# Altium integrated library TI Converter CODEC Voice-Band.IntLib: 99 symbols (part 2 of 7)
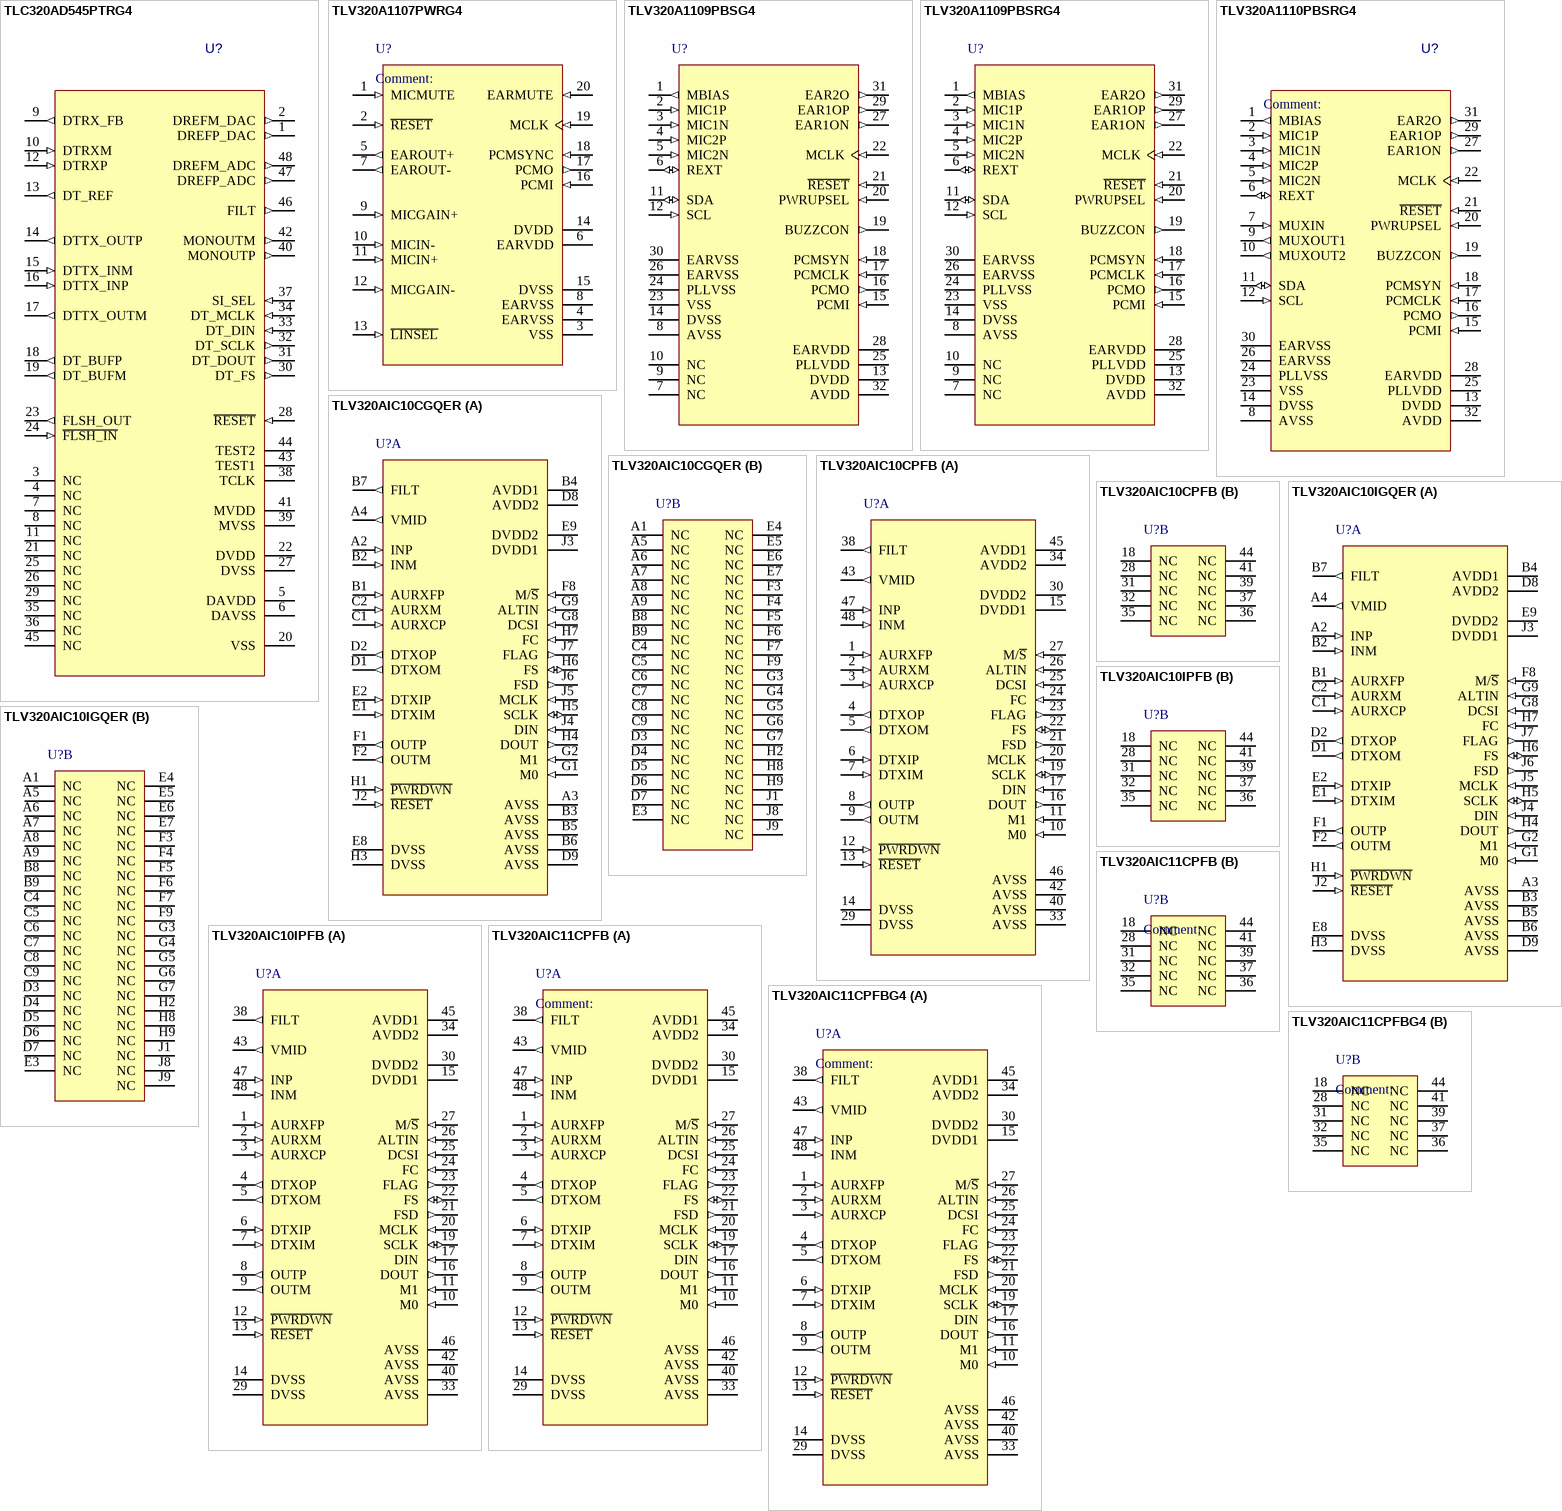
[diagram p10: symbols TLC320AD545PTRG4 to TLV320AIC11CPFBG4]

## TLV320AIC10CPFB
designator U?
General Purpose 3V to 5.5V 16-Bit 22-KSPS DSP CODEC, 48-pin TQFP, Commerical Grade; Published: 16-Dec-2005; LatestRevisionDate: 13-Apr-2006; LatestRevisionNote: IPC-7351 Footprint Added.; DatasheetVersion: 26-Jul-2005; PackageVersion: Jan-1998; PackageReference: PFB48; Publisher: Altium Limited; PackageDescription: 48-Pin Thin Plastic Quad Flat Pack 0.5 mm Pitch; Code_JEDEC: MS-026; ComponentLink1Description: Manufacturer Link; ComponentLink1URL: http://www.ti.com/; ComponentLink2Description: Datasheet; ComponentLink2URL: http://focus.ti.com/lit/ds/symlink/tlv320aic10.pdf
footprint PFB48_N (Thin QFP, 48-Leads, Body 7x7mm, Pitch 0.5mm, IPC Medium Density)
footprint PFB48_L (Thin QFP, 48-Leads, Body 7x7mm, Pitch 0.5mm, IPC High Density)
footprint PFB48_M (Thin QFP, 48-Leads, Body 7x7mm, Pitch 0.5mm, IPC Low Density)
part A pins: 1 AURXFP (in) "Receiver-path amplifier A1 feedback, or noninverting input to auxiliary analog input. Can also be used for general-purpose amplification.", 2 AURXM (in) "Receiver-path amplifier A1 inverting input, or inverting input to auxiliary analog input. Can also be used for general-purpose amplification.", 3 AURXCP (in) "Receiver-path/GP amplifier noninverting input. It needs to be connected to AVSS if not used.", 4 DTXOP (out) "Transmitter path amplifier A3 feedback for positive output. Can also be used for negative output.", 5 DTXOM (out) "Transmitter path amplifier A4 feedback for negative output. Can also be used for general-purpose amplification.", 6 DTXIP (in) "Transmitter-path amplifier A4 analog noninverting input. Can also be used for general-purpose amplification.", 7 DTXIM (in) "Transmitter-path amplifier A3 analog inverting input. Can also be used for general-purpose amplification.", 8 OUTP (out) "DACs noninverting output. OUTP can also be used alone for single-ended operation.", 9 OUTM (out) "DACs inverting output. OUTM is functionally identical with and complementary to OUTP.", 10 M0 (in) "Combine with M1 to select serial interface mode (frame-sync mode)", 11 M1 (in) "Combine with M0 to select serial interface mode (frame-sync mode)", 12 ~{PWRDWN} (in) "Power down.", 13 ~{RESET} (in) "The reset function is provided to initialize all the internal registers to their default values.", 14 DVSS (power) "Digital ground", 15 DVDD1 (power) "Digital power supply", 16 DOUT (out) "Data output. DOUT transmits the ADC output bits and registers data.", 17 DIN (in) "Data input. DIN receives the DAC input data and register data from the external digital signal processor (DSP).", 19 SCLK (io) "Shift clock. SCLK signal clocks serial data into DIN and out of DOUT during the frame-sync interval.", 20 MCLK (in) "Master clock. MCLK derives the internal clocks of the sigma-delta analog interface circuit.", 21 FSD (out) "Frame-sync delayed output.", 22 FS (io) "Frame sync.", 23 FLAG (out) "Controlled by bit D4 of control register 3.", 24 FC (in) "Hardware request for secondary communication. Tie this pin to low if not used.", 25 DCSI (in) "Direct configuration serial input for directly programming of internal control registers. Tie this pin to high if not used.", 26 ALTIN (in) "Serial input in the event monitormode. Tie this pin to low if not used.", 27 M/~{S} (in) "Master/slave select input. When M/S is high, the device is the master, and when is low, it is a slave.", 29 DVSS (power) "Digital ground", 30 DVDD2 (power) "Digital power supply", 33 AVSS (power) "Analog ground", 34 AVDD2 (power) "Analog power supply", 38 FILT (out) "Bandgap filter. FILT is provided for decoupling of the bandgap reference, and provides 2.5 V.", 40 AVSS (power) "Analog ground", 42 AVSS (power) "Analog ground", 43 VMID (out) "Reference voltage output at AVDD/2", 45 AVDD1 (power) "Analog power supply", 46 AVSS (power) "Analog ground", 47 INP (in) "Noninverting input to analog modulator.", 48 INM (in) "Inverting input to analog modulator."
part B pins: 18 NC "No connection", 28 NC "No connection", 31 NC "No connection", 32 NC "No connection", 35 NC "No connection", 36 NC "No connection", 37 NC "No connection", 39 NC "No connection", 41 NC "No connection", 44 NC "No connection"

## TLV320AIC10IGQER
designator U?
General Purpose 3V to 5.5V 16-Bit 22-KSPS DSP CODEC, 80-pin MicroStar Junior VFBGA, Industrial Grade; Published: 16-Dec-2005; LatestRevisionDate: 13-Apr-2006; LatestRevisionNote: IPC-7351 Footprint Added.; DatasheetVersion: 26-Jul-2005; PackageVersion: Oct-2005; PackageReference: GQE80; Publisher: Altium Limited; PackageDescription: 80-Ball Plastic Ball Grid Array 0.5 mm Pitch; Code_JEDEC: MO-225; ComponentLink1Description: Manufacturer Link; ComponentLink1URL: http://www.ti.com/; ComponentLink2Description: Datasheet; ComponentLink2URL: http://focus.ti.com/lit/ds/symlink/tlv320aic10.pdf
footprint GQE80 (BGA, 80-Leads, Body 5x5mm, Pitch 0.5mm)
part A pins: A2 INP (in) "Noninverting input to analog modulator.", A3 AVSS (power) "Analog ground", A4 VMID (out) "Reference voltage output at AVDD/2", B1 AURXFP (in) "Receiver-path amplifier A1 feedback, or noninverting input to auxiliary analog input. Can also be used for general-purpose amplification.", B2 INM (in) "Inverting input to analog modulator.", B3 AVSS (power) "Analog ground", B4 AVDD1 (power) "Analog power supply", B5 AVSS (power) "Analog ground", B6 AVSS (power) "Analog ground", B7 FILT (out) "Bandgap filter. FILT is provided for decoupling of the bandgap reference, and provides 2.5 V.", C1 AURXCP (in) "Receiver-path/GP amplifier noninverting input. It needs to be connected to AVSS if not used.", C2 AURXM (in) "Receiver-path amplifier A1 inverting input, or inverting input to auxiliary analog input. Can also be used for general-purpose amplification.", D1 DTXOM (out) "Transmitter path amplifier A4 feedback for negative output. Can also be used for general-purpose amplification.", D2 DTXOP (out) "Transmitter path amplifier A3 feedback for positive output. Can also be used for negative output.", D8 AVDD2 (power) "Analog power supply", D9 AVSS (power) "Analog ground", E1 DTXIM (in) "Transmitter-path amplifier A3 analog inverting input. Can also be used for general-purpose amplification.", E2 DTXIP (in) "Transmitter-path amplifier A4 analog noninverting input. Can also be used for general-purpose amplification.", E8 DVSS (power) "Digital ground", E9 DVDD2 (power) "Digital power supply", F1 OUTP (out) "DACs noninverting output. OUTP can also be used alone for single-ended operation.", F2 OUTM (out) "DACs inverting output. OUTM is functionally identical with and complementary to OUTP.", F8 M/~{S} (in) "Master/slave select input. When M/S is high, the device is the master, and when is low, it is a slave.", G1 M0 (in) "Combine with M1 to select serial interface mode (frame-sync mode)", G2 M1 (in) "Combine with M0 to select serial interface mode (frame-sync mode)", G8 DCSI (in) "Direct configuration serial input for directly programming of internal control registers. Tie this pin to high if not used.", G9 ALTIN (in) "Serial input in the event monitormode. Tie this pin to low if not used.", H1 ~{PWRDWN} (in) "Power down.", H3 DVSS (power) "Digital ground", H4 DOUT (out) "Data output. DOUT transmits the ADC output bits and registers data.", H5 SCLK (io) "Shift clock. SCLK signal clocks serial data into DIN and out of DOUT during the frame-sync interval.", H6 FS (io) "Frame sync.", H7 FC (in) "Hardware request for secondary communication. Tie this pin to low if not used.", J2 ~{RESET} (in) "The reset function is provided to initialize all the internal registers to their default values.", J3 DVDD1 (power) "Digital power supply", J4 DIN (in) "Data input. DIN receives the DAC input data and register data from the external digital signal processor (DSP).", J5 MCLK (in) "Master clock. MCLK derives the internal clocks of the sigma-delta analog interface circuit.", J6 FSD (out) "Frame-sync delayed output.", J7 FLAG (out) "Controlled by bit D4 of control register 3."
part B pins: A1 NC "No connection", A5 NC "No connection", A6 NC "No connection", A7 NC "No connection", A8 NC "No connection", A9 NC "No connection", B8 NC "No connection", B9 NC "No connection", C4 NC "No connection", C5 NC "No connection", C6 NC "No connection", C7 NC "No connection", C8 NC "No connection", C9 NC "No connection", D3 NC "No connection", D4 NC "No connection", D5 NC "No connection", D6 NC "No connection", D7 NC "No connection", E3 NC "No connection", E4 NC "No connection", E5 NC "No connection", E6 NC "No connection", E7 NC "No connection", F3 NC "No connection", F4 NC "No connection", F5 NC "No connection", F6 NC "No connection", F7 NC "No connection", F9 NC "No connection", G3 NC "No connection", G4 NC "No connection", G5 NC "No connection", G6 NC "No connection", G7 NC "No connection", H2 NC "No connection", H8 NC "No connection", H9 NC "No connection", J1 NC "No connection", J8 NC "No connection", J9 NC "No connection"

## TLV320AIC10IPFB
designator U?
General Purpose 3V to 5.5V 16-Bit 22-KSPS DSP CODEC, 48-pin TQFP, Industrial Grade; Published: 16-Dec-2005; LatestRevisionDate: 13-Apr-2006; LatestRevisionNote: IPC-7351 Footprint Added.; DatasheetVersion: 26-Jul-2005; PackageVersion: Jan-1998; PackageReference: PFB48; Publisher: Altium Limited; PackageDescription: 48-Pin Thin Plastic Quad Flat Pack 0.5 mm Pitch; Code_JEDEC: MS-026; ComponentLink1Description: Manufacturer Link; ComponentLink1URL: http://www.ti.com/; ComponentLink2Description: Datasheet; ComponentLink2URL: http://focus.ti.com/lit/ds/symlink/tlv320aic10.pdf
footprint PFB48_N (Thin QFP, 48-Leads, Body 7x7mm, Pitch 0.5mm, IPC Medium Density)
footprint PFB48_L (Thin QFP, 48-Leads, Body 7x7mm, Pitch 0.5mm, IPC High Density)
footprint PFB48_M (Thin QFP, 48-Leads, Body 7x7mm, Pitch 0.5mm, IPC Low Density)
part A pins: 1 AURXFP (in) "Receiver-path amplifier A1 feedback, or noninverting input to auxiliary analog input. Can also be used for general-purpose amplification.", 2 AURXM (in) "Receiver-path amplifier A1 inverting input, or inverting input to auxiliary analog input. Can also be used for general-purpose amplification.", 3 AURXCP (in) "Receiver-path/GP amplifier noninverting input. It needs to be connected to AVSS if not used.", 4 DTXOP (out) "Transmitter path amplifier A3 feedback for positive output. Can also be used for negative output.", 5 DTXOM (out) "Transmitter path amplifier A4 feedback for negative output. Can also be used for general-purpose amplification.", 6 DTXIP (in) "Transmitter-path amplifier A4 analog noninverting input. Can also be used for general-purpose amplification.", 7 DTXIM (in) "Transmitter-path amplifier A3 analog inverting input. Can also be used for general-purpose amplification.", 8 OUTP (out) "DACs noninverting output. OUTP can also be used alone for single-ended operation.", 9 OUTM (out) "DACs inverting output. OUTM is functionally identical with and complementary to OUTP.", 10 M0 (in) "Combine with M1 to select serial interface mode (frame-sync mode)", 11 M1 (in) "Combine with M0 to select serial interface mode (frame-sync mode)", 12 ~{PWRDWN} (in) "Power down.", 13 ~{RESET} (in) "The reset function is provided to initialize all the internal registers to their default values.", 14 DVSS (power) "Digital ground", 15 DVDD1 (power) "Digital power supply", 16 DOUT (out) "Data output. DOUT transmits the ADC output bits and registers data.", 17 DIN (in) "Data input. DIN receives the DAC input data and register data from the external digital signal processor (DSP).", 19 SCLK (io) "Shift clock. SCLK signal clocks serial data into DIN and out of DOUT during the frame-sync interval.", 20 MCLK (in) "Master clock. MCLK derives the internal clocks of the sigma-delta analog interface circuit.", 21 FSD (out) "Frame-sync delayed output.", 22 FS (io) "Frame sync.", 23 FLAG (out) "Controlled by bit D4 of control register 3.", 24 FC (in) "Hardware request for secondary communication. Tie this pin to low if not used.", 25 DCSI (in) "Direct configuration serial input for directly programming of internal control registers. Tie this pin to high if not used.", 26 ALTIN (in) "Serial input in the event monitormode. Tie this pin to low if not used.", 27 M/~{S} (in) "Master/slave select input. When M/S is high, the device is the master, and when is low, it is a slave.", 29 DVSS (power) "Digital ground", 30 DVDD2 (power) "Digital power supply", 33 AVSS (power) "Analog ground", 34 AVDD2 (power) "Analog power supply", 38 FILT (out) "Bandgap filter. FILT is provided for decoupling of the bandgap reference, and provides 2.5 V.", 40 AVSS (power) "Analog ground", 42 AVSS (power) "Analog ground", 43 VMID (out) "Reference voltage output at AVDD/2", 45 AVDD1 (power) "Analog power supply", 46 AVSS (power) "Analog ground", 47 INP (in) "Noninverting input to analog modulator.", 48 INM (in) "Inverting input to analog modulator."
part B pins: 18 NC "No connection", 28 NC "No connection", 31 NC "No connection", 32 NC "No connection", 35 NC "No connection", 36 NC "No connection", 37 NC "No connection", 39 NC "No connection", 41 NC "No connection", 44 NC "No connection"

## TLV320AIC11CPFB
designator U?
General Purpose Low I/O Voltage 1.1V to 3.6V 16-Bit 22-KSPS DSP CODEC, 48-Pin TQFP, Commerical Grade; Published: 16-Dec-2005; LatestRevisionDate: 13-Apr-2006; LatestRevisionNote: IPC-7351 Footprint Added.; DatasheetVersion: 08-Aug-2005; PackageVersion: Jan-1998; PackageReference: PFB48; Publisher: Altium Limited; PackageDescription: 48-Pin Thin Plastic Quad Flat Pack 0.5 mm Pitch; Code_JEDEC: MS-026; ComponentLink1Description: Manufacturer Link; ComponentLink1URL: http://www.ti.com/; ComponentLink2Description: Datasheet; ComponentLink2URL: http://focus.ti.com/lit/ds/symlink/tlv320aic11.pdf
footprint PFB48_N (Thin QFP, 48-Leads, Body 7x7mm, Pitch 0.5mm, IPC Medium Density)
footprint PFB48_L (Thin QFP, 48-Leads, Body 7x7mm, Pitch 0.5mm, IPC High Density)
footprint PFB48_M (Thin QFP, 48-Leads, Body 7x7mm, Pitch 0.5mm, IPC Low Density)
part A pins: 1 AURXFP (in) "Receiver-path amplifier A1 feedback, or noninverting input to auxiliary analog input. It can also be used for general-purpose amplification.", 2 AURXM (in) "Receiver-path amplifier A1 inverting input, or inverting input to auxiliary analog input. It can also be used for general-purpose amplification.", 3 AURXCP (in) "Receiver-path/GP amplifier noninverting input.", 4 DTXOP (out) "Transmitter-path amplifier A3 feedback for positive output. It can also be used for general-purpose amplification.", 5 DTXOM (out) "Transmitter path amplifier A4 feedback for negative output. It can also be used for general-purpose amplification.", 6 DTXIP (in) "Transmitter-path amplifier A4 analog noninverting input. Can also be used for general-purpose amplification.", 7 DTXIM (in) "Transmitter-path amplifier A3 analog inverting input. It can also be used for general-purpose amplification.", 8 OUTP (out) "DAC’s noninverting output. OUTP can also be used alone for single-ended operation.", 9 OUTM (out) "DAC’s inverting output. OUTM is functionally identical with and complementary to OUTP.", 10 M0 (in) "Combine with M1 to select serial interface mode (frame-sync mode)", 11 M1 (in) "Combine with M0 to select serial interface mode (frame-sync mode)", 12 ~{PWRDWN} (in) "Power down.", 13 ~{RESET} (in) "Reset. The reset function is provided to initialize all the internal registers to their default values.", 14 DVSS (power) "Digital ground", 15 DVDD1 (power) "Dedicated 1.1-V to 3.6-V digital power supply for low-voltage I/O", 16 DOUT (out) "Data output. DOUT transmits the ADC output bits and registers data, and is synchronized to SCLK and FS.", 17 DIN (in) "Data input. DIN receives the DAC input data and register data from the external digital signal processor.", 19 SCLK (io) "Shift clock. SCLK signal clocks serial data into DIN and out of DOUT during the frame-sync interval.", 20 MCLK (in) "Master clock. MCLK derives the internal clocks of the sigma-delta analog interface circuit.", 21 FSD (out) "Frame-sync delayed output. The FSD output synchronizes a slave device to the frame sync of the master device.", 22 FS (io) "Frame sync. When FS goes low, DIN begins receiving data bits and DOUT begins transmitting data bits.", 23 FLAG (out) "Controlled by bit D4 of control register 3.", 24 FC (in) "Hardware request for secondary communication", 25 DCSI (in) "Direct configuration serial input for directly programming of internal control registers", 26 ALTIN (in) "Serial input in the event monitormode", 27 M/~{S} (in) "Master/slave select input. When M/S is high, the device is the master, and when M/S is low, it is a slave.", 29 DVSS (power) "Digital ground", 30 DVDD2 (power) "Dedicated 3-V to 5.5-V digital power supply for core CODEC", 33 AVSS (power) "Analog ground", 34 AVDD2 (power) "Analog ADC power supply (3 V to 5.5 V)", 38 FILT (out) "Bandgap filter. FILT is provided for decoupling of the bandgap reference, and provides 2.5 V.", 40 AVSS (power) "Analog ground", 42 AVSS (power) "Analog ground", 43 VMID (out) "Reference voltage output at AVDD/2", 45 AVDD1 (power) "Analog ADC power supply (3 V to 5.5 V)", 46 AVSS (power) "Analog ground", 47 INP (in) "Noninverting input to analog modulator.", 48 INM (in) "Inverting input to analog modulator."
part B pins: 18 NC "No connection", 28 NC "No connection", 31 NC "No connection", 32 NC "No connection", 35 NC "No connection", 36 NC "No connection", 37 NC "No connection", 39 NC "No connection", 41 NC "No connection", 44 NC "No connection"

## TLV320AIC11CPFBG4
designator U?
General Purpose Low I/O Voltage 1.1V to 3.6V 16-Bit 22-KSPS DSP CODEC, 48-Pin TQFP, Commerical Grade; Published: 16-Dec-2005; LatestRevisionDate: 13-Apr-2006; LatestRevisionNote: IPC-7351 Footprint Added.; DatasheetVersion: 08-Aug-2005; PackageVersion: Jan-1998; PackageReference: PFB48; Publisher: Altium Limited; PackageDescription: 48-Pin Thin Plastic Quad Flat Pack 0.5 mm Pitch; Code_JEDEC: MS-026; ComponentLink1Description: Manufacturer Link; ComponentLink1URL: http://www.ti.com/; ComponentLink2Description: Datasheet; ComponentLink2URL: http://focus.ti.com/lit/ds/symlink/tlv320aic11.pdf
footprint PFB48_N (Thin QFP, 48-Leads, Body 7x7mm, Pitch 0.5mm, IPC Medium Density)
footprint PFB48_L (Thin QFP, 48-Leads, Body 7x7mm, Pitch 0.5mm, IPC High Density)
footprint PFB48_M (Thin QFP, 48-Leads, Body 7x7mm, Pitch 0.5mm, IPC Low Density)
part A pins: 1 AURXFP (in) "Receiver-path amplifier A1 feedback, or noninverting input to auxiliary analog input. It can also be used for general-purpose amplification.", 2 AURXM (in) "Receiver-path amplifier A1 inverting input, or inverting input to auxiliary analog input. It can also be used for general-purpose amplification.", 3 AURXCP (in) "Receiver-path/GP amplifier noninverting input.", 4 DTXOP (out) "Transmitter-path amplifier A3 feedback for positive output. It can also be used for general-purpose amplification.", 5 DTXOM (out) "Transmitter path amplifier A4 feedback for negative output. It can also be used for general-purpose amplification.", 6 DTXIP (in) "Transmitter-path amplifier A4 analog noninverting input. Can also be used for general-purpose amplification.", 7 DTXIM (in) "Transmitter-path amplifier A3 analog inverting input. It can also be used for general-purpose amplification.", 8 OUTP (out) "DAC’s noninverting output. OUTP can also be used alone for single-ended operation.", 9 OUTM (out) "DAC’s inverting output. OUTM is functionally identical with and complementary to OUTP.", 10 M0 (in) "Combine with M1 to select serial interface mode (frame-sync mode)", 11 M1 (in) "Combine with M0 to select serial interface mode (frame-sync mode)", 12 ~{PWRDWN} (in) "Power down.", 13 ~{RESET} (in) "Reset. The reset function is provided to initialize all the internal registers to their default values.", 14 DVSS (power) "Digital ground", 15 DVDD1 (power) "Dedicated 1.1-V to 3.6-V digital power supply for low-voltage I/O", 16 DOUT (out) "Data output. DOUT transmits the ADC output bits and registers data, and is synchronized to SCLK and FS.", 17 DIN (in) "Data input. DIN receives the DAC input data and register data from the external digital signal processor.", 19 SCLK (io) "Shift clock. SCLK signal clocks serial data into DIN and out of DOUT during the frame-sync interval.", 20 MCLK (in) "Master clock. MCLK derives the internal clocks of the sigma-delta analog interface circuit.", 21 FSD (out) "Frame-sync delayed output. The FSD output synchronizes a slave device to the frame sync of the master device.", 22 FS (io) "Frame sync. When FS goes low, DIN begins receiving data bits and DOUT begins transmitting data bits.", 23 FLAG (out) "Controlled by bit D4 of control register 3.", 24 FC (in) "Hardware request for secondary communication", 25 DCSI (in) "Direct configuration serial input for directly programming of internal control registers", 26 ALTIN (in) "Serial input in the event monitormode", 27 M/~{S} (in) "Master/slave select input. When M/S is high, the device is the master, and when M/S is low, it is a slave.", 29 DVSS (power) "Digital ground", 30 DVDD2 (power) "Dedicated 3-V to 5.5-V digital power supply for core CODEC", 33 AVSS (power) "Analog ground", 34 AVDD2 (power) "Analog ADC power supply (3 V to 5.5 V)", 38 FILT (out) "Bandgap filter. FILT is provided for decoupling of the bandgap reference, and provides 2.5 V.", 40 AVSS (power) "Analog ground", 42 AVSS (power) "Analog ground", 43 VMID (out) "Reference voltage output at AVDD/2", 45 AVDD1 (power) "Analog ADC power supply (3 V to 5.5 V)", 46 AVSS (power) "Analog ground", 47 INP (in) "Noninverting input to analog modulator.", 48 INM (in) "Inverting input to analog modulator."
part B pins: 18 NC "No connection", 28 NC "No connection", 31 NC "No connection", 32 NC "No connection", 35 NC "No connection", 36 NC "No connection", 37 NC "No connection", 39 NC "No connection", 41 NC "No connection", 44 NC "No connection"

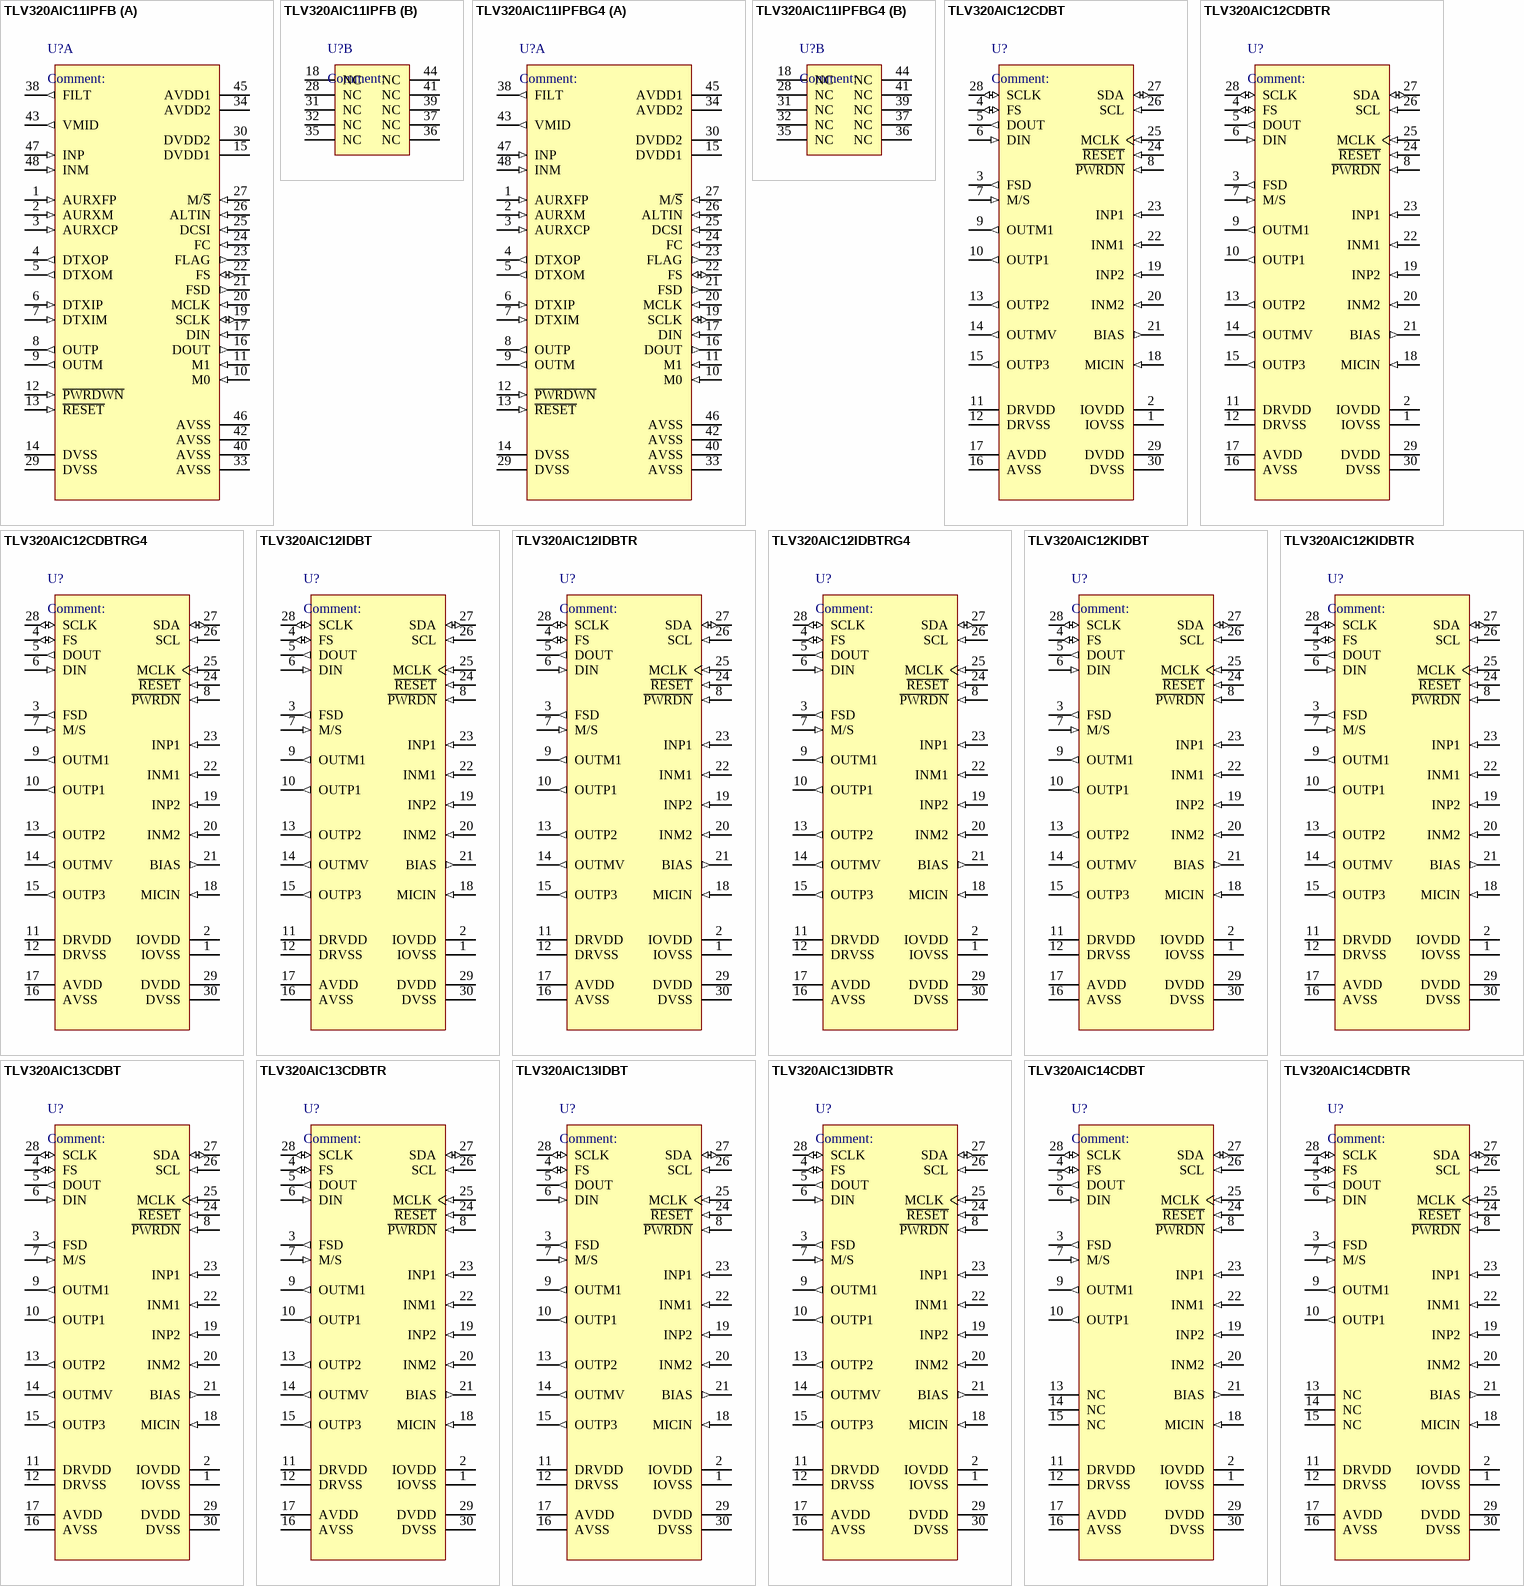
[diagram p2: symbols TLV320AIC11IPFB to TLV320AIC14CDBTR]

## TLV320AIC11IPFB
designator U?
General Purpose Low I/O Voltage 1.1V to 3.6V 16-Bit 22-KSPS DSP CODEC, 48-Pin TQFP, Industrial Grade; Published: 16-Dec-2005; LatestRevisionDate: 13-Apr-2006; LatestRevisionNote: IPC-7351 Footprint Added.; DatasheetVersion: 08-Aug-2005; PackageVersion: Jan-1998; PackageReference: PFB48; Publisher: Altium Limited; PackageDescription: 48-Pin Thin Plastic Quad Flat Pack 0.5 mm Pitch; Code_JEDEC: MS-026; ComponentLink1Description: Manufacturer Link; ComponentLink1URL: http://www.ti.com/; ComponentLink2Description: Datasheet; ComponentLink2URL: http://focus.ti.com/lit/ds/symlink/tlv320aic11.pdf
footprint PFB48_N (Thin QFP, 48-Leads, Body 7x7mm, Pitch 0.5mm, IPC Medium Density)
footprint PFB48_L (Thin QFP, 48-Leads, Body 7x7mm, Pitch 0.5mm, IPC High Density)
footprint PFB48_M (Thin QFP, 48-Leads, Body 7x7mm, Pitch 0.5mm, IPC Low Density)
part A pins: 1 AURXFP (in) "Receiver-path amplifier A1 feedback, or noninverting input to auxiliary analog input. It can also be used for general-purpose amplification.", 2 AURXM (in) "Receiver-path amplifier A1 inverting input, or inverting input to auxiliary analog input. It can also be used for general-purpose amplification.", 3 AURXCP (in) "Receiver-path/GP amplifier noninverting input.", 4 DTXOP (out) "Transmitter-path amplifier A3 feedback for positive output. It can also be used for general-purpose amplification.", 5 DTXOM (out) "Transmitter path amplifier A4 feedback for negative output. It can also be used for general-purpose amplification.", 6 DTXIP (in) "Transmitter-path amplifier A4 analog noninverting input. Can also be used for general-purpose amplification.", 7 DTXIM (in) "Transmitter-path amplifier A3 analog inverting input. It can also be used for general-purpose amplification.", 8 OUTP (out) "DAC’s noninverting output. OUTP can also be used alone for single-ended operation.", 9 OUTM (out) "DAC’s inverting output. OUTM is functionally identical with and complementary to OUTP.", 10 M0 (in) "Combine with M1 to select serial interface mode (frame-sync mode)", 11 M1 (in) "Combine with M0 to select serial interface mode (frame-sync mode)", 12 ~{PWRDWN} (in) "Power down.", 13 ~{RESET} (in) "Reset. The reset function is provided to initialize all the internal registers to their default values.", 14 DVSS (power) "Digital ground", 15 DVDD1 (power) "Dedicated 1.1-V to 3.6-V digital power supply for low-voltage I/O", 16 DOUT (out) "Data output. DOUT transmits the ADC output bits and registers data, and is synchronized to SCLK and FS.", 17 DIN (in) "Data input. DIN receives the DAC input data and register data from the external digital signal processor.", 19 SCLK (io) "Shift clock. SCLK signal clocks serial data into DIN and out of DOUT during the frame-sync interval.", 20 MCLK (in) "Master clock. MCLK derives the internal clocks of the sigma-delta analog interface circuit.", 21 FSD (out) "Frame-sync delayed output. The FSD output synchronizes a slave device to the frame sync of the master device.", 22 FS (io) "Frame sync. When FS goes low, DIN begins receiving data bits and DOUT begins transmitting data bits.", 23 FLAG (out) "Controlled by bit D4 of control register 3.", 24 FC (in) "Hardware request for secondary communication", 25 DCSI (in) "Direct configuration serial input for directly programming of internal control registers", 26 ALTIN (in) "Serial input in the event monitormode", 27 M/~{S} (in) "Master/slave select input. When M/S is high, the device is the master, and when M/S is low, it is a slave.", 29 DVSS (power) "Digital ground", 30 DVDD2 (power) "Dedicated 3-V to 5.5-V digital power supply for core CODEC", 33 AVSS (power) "Analog ground", 34 AVDD2 (power) "Analog ADC power supply (3 V to 5.5 V)", 38 FILT (out) "Bandgap filter. FILT is provided for decoupling of the bandgap reference, and provides 2.5 V.", 40 AVSS (power) "Analog ground", 42 AVSS (power) "Analog ground", 43 VMID (out) "Reference voltage output at AVDD/2", 45 AVDD1 (power) "Analog ADC power supply (3 V to 5.5 V)", 46 AVSS (power) "Analog ground", 47 INP (in) "Noninverting input to analog modulator.", 48 INM (in) "Inverting input to analog modulator."
part B pins: 18 NC "No connection", 28 NC "No connection", 31 NC "No connection", 32 NC "No connection", 35 NC "No connection", 36 NC "No connection", 37 NC "No connection", 39 NC "No connection", 41 NC "No connection", 44 NC "No connection"

## TLV320AIC11IPFBG4
designator U?
General Purpose Low I/O Voltage 1.1V to 3.6V 16-Bit 22-KSPS DSP CODEC, 48-Pin TQFP, Industrial Grade; Published: 16-Dec-2005; LatestRevisionDate: 13-Apr-2006; LatestRevisionNote: IPC-7351 Footprint Added.; DatasheetVersion: 08-Aug-2005; PackageVersion: Jan-1998; PackageReference: PFB48; Publisher: Altium Limited; PackageDescription: 48-Pin Thin Plastic Quad Flat Pack 0.5 mm Pitch; Code_JEDEC: MS-026; ComponentLink1Description: Manufacturer Link; ComponentLink1URL: http://www.ti.com/; ComponentLink2Description: Datasheet; ComponentLink2URL: http://focus.ti.com/lit/ds/symlink/tlv320aic11.pdf
footprint PFB48_N (Thin QFP, 48-Leads, Body 7x7mm, Pitch 0.5mm, IPC Medium Density)
footprint PFB48_L (Thin QFP, 48-Leads, Body 7x7mm, Pitch 0.5mm, IPC High Density)
footprint PFB48_M (Thin QFP, 48-Leads, Body 7x7mm, Pitch 0.5mm, IPC Low Density)
part A pins: 1 AURXFP (in) "Receiver-path amplifier A1 feedback, or noninverting input to auxiliary analog input. It can also be used for general-purpose amplification.", 2 AURXM (in) "Receiver-path amplifier A1 inverting input, or inverting input to auxiliary analog input. It can also be used for general-purpose amplification.", 3 AURXCP (in) "Receiver-path/GP amplifier noninverting input.", 4 DTXOP (out) "Transmitter-path amplifier A3 feedback for positive output. It can also be used for general-purpose amplification.", 5 DTXOM (out) "Transmitter path amplifier A4 feedback for negative output. It can also be used for general-purpose amplification.", 6 DTXIP (in) "Transmitter-path amplifier A4 analog noninverting input. Can also be used for general-purpose amplification.", 7 DTXIM (in) "Transmitter-path amplifier A3 analog inverting input. It can also be used for general-purpose amplification.", 8 OUTP (out) "DAC’s noninverting output. OUTP can also be used alone for single-ended operation.", 9 OUTM (out) "DAC’s inverting output. OUTM is functionally identical with and complementary to OUTP.", 10 M0 (in) "Combine with M1 to select serial interface mode (frame-sync mode)", 11 M1 (in) "Combine with M0 to select serial interface mode (frame-sync mode)", 12 ~{PWRDWN} (in) "Power down.", 13 ~{RESET} (in) "Reset. The reset function is provided to initialize all the internal registers to their default values.", 14 DVSS (power) "Digital ground", 15 DVDD1 (power) "Dedicated 1.1-V to 3.6-V digital power supply for low-voltage I/O", 16 DOUT (out) "Data output. DOUT transmits the ADC output bits and registers data, and is synchronized to SCLK and FS.", 17 DIN (in) "Data input. DIN receives the DAC input data and register data from the external digital signal processor.", 19 SCLK (io) "Shift clock. SCLK signal clocks serial data into DIN and out of DOUT during the frame-sync interval.", 20 MCLK (in) "Master clock. MCLK derives the internal clocks of the sigma-delta analog interface circuit.", 21 FSD (out) "Frame-sync delayed output. The FSD output synchronizes a slave device to the frame sync of the master device.", 22 FS (io) "Frame sync. When FS goes low, DIN begins receiving data bits and DOUT begins transmitting data bits.", 23 FLAG (out) "Controlled by bit D4 of control register 3.", 24 FC (in) "Hardware request for secondary communication", 25 DCSI (in) "Direct configuration serial input for directly programming of internal control registers", 26 ALTIN (in) "Serial input in the event monitormode", 27 M/~{S} (in) "Master/slave select input. When M/S is high, the device is the master, and when M/S is low, it is a slave.", 29 DVSS (power) "Digital ground", 30 DVDD2 (power) "Dedicated 3-V to 5.5-V digital power supply for core CODEC", 33 AVSS (power) "Analog ground", 34 AVDD2 (power) "Analog ADC power supply (3 V to 5.5 V)", 38 FILT (out) "Bandgap filter. FILT is provided for decoupling of the bandgap reference, and provides 2.5 V.", 40 AVSS (power) "Analog ground", 42 AVSS (power) "Analog ground", 43 VMID (out) "Reference voltage output at AVDD/2", 45 AVDD1 (power) "Analog ADC power supply (3 V to 5.5 V)", 46 AVSS (power) "Analog ground", 47 INP (in) "Noninverting input to analog modulator.", 48 INM (in) "Inverting input to analog modulator."
part B pins: 18 NC "No connection", 28 NC "No connection", 31 NC "No connection", 32 NC "No connection", 35 NC "No connection", 36 NC "No connection", 37 NC "No connection", 39 NC "No connection", 41 NC "No connection", 44 NC "No connection"

## TLV320AIC12CDBT
designator U?
Low-Power, Highly-Integrated, Programmable 16-Bit, 26-Ksps Mono CODEC, 30-Pin TSSOP, Commerical Grade; Published: 16-Dec-2005; DatasheetVersion: 17-Oct-2005; PackageVersion: Sep-2005; PackageReference: DBT30; Publisher: Altium Limited; PackageDescription: Shrink Small Outline; 30 Leads; Body Width 4.4 mm; Pitch 0.5 mm; Code_JEDEC: MO-153; ComponentLink1Description: Manufacturer Link; ComponentLink1URL: http://www.ti.com/; ComponentLink2Description: Datasheet; ComponentLink2URL: http://focus.ti.com/lit/ds/symlink/tlv320aic12.pdf
footprint DBT30 (Shrink Small Outline; 30 Leads; Body Width 4.4 mm; Pitch 0.5 mm)
pins: 1 IOVSS (power) "Digital I/O ground", 2 IOVDD (power) "Digital I/O power supply", 3 FSD (out) "Frame sync delayed output. The FSD output synchronizes a slave device to the frame sync of the master device.", 4 FS (io) "Frame sync. When FS goes low, DIN begins receiving data bits and DOUT begins transmitting data bits.", 5 DOUT (out) "Data output. DOUT transmits the ADC output bits and registers data, and is synchronized to SCLK and FS", 6 DIN (in) "Data input. DIN receives the DAC input data and register data from the external DSP and is synchronized to SCLK and FS.", 7 M/S (in) "Master/slave select input.", 8 ~{PWRDN} (in) "Power down.", 9 OUTM1 (out) "Inverting output of the DAC. OUTM1 is functionally identical with and complementary to OUTP1.", 10 OUTP1 (out) "Noninverting output of the DAC.", 11 DRVDD (power) "Analog power supply for the 16 Ohm drivers OUTP2 and OUTP3", 12 DRVSS (power) "Analog ground for the 16 Ohm drivers OUTP2 and OUTP3", 13 OUTP2 (out) "Analog output number 2 from the 16 Ohm driver.", 14 OUTMV (out) "Programmable virtual ground for the output of OUTP2 and OUTP3", 15 OUTP3 (out) "Analog output number 3 from the 16 Ohm driver.", 16 AVSS (power) "Analog ground", 17 AVDD (power) "Analog power supply", 18 MICIN (in) "MIC preamplifier input. It must be connected to AVSS if not used.", 19 INP2 (in) "Noninverting analog input 2. It must be connected to AVSS if not used.", 20 INM2 (in) "Inverting analog input 2. It must be connected to AVSS if not used.", 21 BIAS (out) "Bias output voltage is software selectable between 1.35 V and 2.35 V.", 22 INM1 (in) "Inverting analog input 1. It must be connected to AVSS if not used.", 23 INP1 (in) "Noninverting analog input 1. It must be connected to AVSS if not used.", 24 ~{RESET} (in) "Hardware reset.", 25 MCLK (in) "Master clock. MCLK derives the internal clocks of the sigma-delta analog interface circuit.", 26 SCL (in) "Programmable host port (I2C or S2C) clock input.", 27 SDA (io) "Programmable host port (I2C or S2C) data line.", 28 SCLK (io) "Shift clock. SCLK signal clocks serial data into DIN and out of DOUT during the frame-sync interval.", 29 DVDD (power) "Digital power supply", 30 DVSS (power) "Digital ground"

## TLV320AIC12CDBTR
designator U?
Low-Power, Highly-Integrated, Programmable 16-Bit, 26-Ksps Mono CODEC, 30-Pin TSSOP, Commerical Grade; Published: 16-Dec-2005; DatasheetVersion: 17-Oct-2005; PackageVersion: Sep-2005; PackageReference: DBT30; Publisher: Altium Limited; PackageDescription: Shrink Small Outline; 30 Leads; Body Width 4.4 mm; Pitch 0.5 mm; Code_JEDEC: MO-153; ComponentLink1Description: Manufacturer Link; ComponentLink1URL: http://www.ti.com/; ComponentLink2Description: Datasheet; ComponentLink2URL: http://focus.ti.com/lit/ds/symlink/tlv320aic12.pdf
footprint DBT30 (Shrink Small Outline; 30 Leads; Body Width 4.4 mm; Pitch 0.5 mm)
pins: 1 IOVSS (power) "Digital I/O ground", 2 IOVDD (power) "Digital I/O power supply", 3 FSD (out) "Frame sync delayed output. The FSD output synchronizes a slave device to the frame sync of the master device.", 4 FS (io) "Frame sync. When FS goes low, DIN begins receiving data bits and DOUT begins transmitting data bits.", 5 DOUT (out) "Data output. DOUT transmits the ADC output bits and registers data, and is synchronized to SCLK and FS", 6 DIN (in) "Data input. DIN receives the DAC input data and register data from the external DSP and is synchronized to SCLK and FS.", 7 M/S (in) "Master/slave select input.", 8 ~{PWRDN} (in) "Power down.", 9 OUTM1 (out) "Inverting output of the DAC. OUTM1 is functionally identical with and complementary to OUTP1.", 10 OUTP1 (out) "Noninverting output of the DAC.", 11 DRVDD (power) "Analog power supply for the 16 Ohm drivers OUTP2 and OUTP3", 12 DRVSS (power) "Analog ground for the 16 Ohm drivers OUTP2 and OUTP3", 13 OUTP2 (out) "Analog output number 2 from the 16 Ohm driver.", 14 OUTMV (out) "Programmable virtual ground for the output of OUTP2 and OUTP3", 15 OUTP3 (out) "Analog output number 3 from the 16 Ohm driver.", 16 AVSS (power) "Analog ground", 17 AVDD (power) "Analog power supply", 18 MICIN (in) "MIC preamplifier input. It must be connected to AVSS if not used.", 19 INP2 (in) "Noninverting analog input 2. It must be connected to AVSS if not used.", 20 INM2 (in) "Inverting analog input 2. It must be connected to AVSS if not used.", 21 BIAS (out) "Bias output voltage is software selectable between 1.35 V and 2.35 V.", 22 INM1 (in) "Inverting analog input 1. It must be connected to AVSS if not used.", 23 INP1 (in) "Noninverting analog input 1. It must be connected to AVSS if not used.", 24 ~{RESET} (in) "Hardware reset.", 25 MCLK (in) "Master clock. MCLK derives the internal clocks of the sigma-delta analog interface circuit.", 26 SCL (in) "Programmable host port (I2C or S2C) clock input.", 27 SDA (io) "Programmable host port (I2C or S2C) data line.", 28 SCLK (io) "Shift clock. SCLK signal clocks serial data into DIN and out of DOUT during the frame-sync interval.", 29 DVDD (power) "Digital power supply", 30 DVSS (power) "Digital ground"

## TLV320AIC12CDBTRG4
designator U?
Low-Power, Highly-Integrated, Programmable 16-Bit, 26-Ksps Mono CODEC, 30-Pin TSSOP, Commerical Grade; Published: 16-Dec-2005; DatasheetVersion: 17-Oct-2005; PackageVersion: Sep-2005; PackageReference: DBT30; Publisher: Altium Limited; PackageDescription: Shrink Small Outline; 30 Leads; Body Width 4.4 mm; Pitch 0.5 mm; Code_JEDEC: MO-153; ComponentLink1Description: Manufacturer Link; ComponentLink1URL: http://www.ti.com/; ComponentLink2Description: Datasheet; ComponentLink2URL: http://focus.ti.com/lit/ds/symlink/tlv320aic12.pdf
footprint DBT30 (Shrink Small Outline; 30 Leads; Body Width 4.4 mm; Pitch 0.5 mm)
pins: 1 IOVSS (power) "Digital I/O ground", 2 IOVDD (power) "Digital I/O power supply", 3 FSD (out) "Frame sync delayed output. The FSD output synchronizes a slave device to the frame sync of the master device.", 4 FS (io) "Frame sync. When FS goes low, DIN begins receiving data bits and DOUT begins transmitting data bits.", 5 DOUT (out) "Data output. DOUT transmits the ADC output bits and registers data, and is synchronized to SCLK and FS", 6 DIN (in) "Data input. DIN receives the DAC input data and register data from the external DSP and is synchronized to SCLK and FS.", 7 M/S (in) "Master/slave select input.", 8 ~{PWRDN} (in) "Power down.", 9 OUTM1 (out) "Inverting output of the DAC. OUTM1 is functionally identical with and complementary to OUTP1.", 10 OUTP1 (out) "Noninverting output of the DAC.", 11 DRVDD (power) "Analog power supply for the 16 Ohm drivers OUTP2 and OUTP3", 12 DRVSS (power) "Analog ground for the 16 Ohm drivers OUTP2 and OUTP3", 13 OUTP2 (out) "Analog output number 2 from the 16 Ohm driver.", 14 OUTMV (out) "Programmable virtual ground for the output of OUTP2 and OUTP3", 15 OUTP3 (out) "Analog output number 3 from the 16 Ohm driver.", 16 AVSS (power) "Analog ground", 17 AVDD (power) "Analog power supply", 18 MICIN (in) "MIC preamplifier input. It must be connected to AVSS if not used.", 19 INP2 (in) "Noninverting analog input 2. It must be connected to AVSS if not used.", 20 INM2 (in) "Inverting analog input 2. It must be connected to AVSS if not used.", 21 BIAS (out) "Bias output voltage is software selectable between 1.35 V and 2.35 V.", 22 INM1 (in) "Inverting analog input 1. It must be connected to AVSS if not used.", 23 INP1 (in) "Noninverting analog input 1. It must be connected to AVSS if not used.", 24 ~{RESET} (in) "Hardware reset.", 25 MCLK (in) "Master clock. MCLK derives the internal clocks of the sigma-delta analog interface circuit.", 26 SCL (in) "Programmable host port (I2C or S2C) clock input.", 27 SDA (io) "Programmable host port (I2C or S2C) data line.", 28 SCLK (io) "Shift clock. SCLK signal clocks serial data into DIN and out of DOUT during the frame-sync interval.", 29 DVDD (power) "Digital power supply", 30 DVSS (power) "Digital ground"

## TLV320AIC12IDBT
designator U?
Low-Power, Highly-Integrated, Programmable 16-Bit, 26-Ksps Mono CODEC, 30-Pin TSSOP, Industrial Grade; Published: 16-Dec-2005; DatasheetVersion: 17-Oct-2005; PackageVersion: Sep-2005; PackageReference: DBT30; Publisher: Altium Limited; PackageDescription: Shrink Small Outline; 30 Leads; Body Width 4.4 mm; Pitch 0.5 mm; Code_JEDEC: MO-153; ComponentLink1Description: Manufacturer Link; ComponentLink1URL: http://www.ti.com/; ComponentLink2Description: Datasheet; ComponentLink2URL: http://focus.ti.com/lit/ds/symlink/tlv320aic12.pdf
footprint DBT30 (Shrink Small Outline; 30 Leads; Body Width 4.4 mm; Pitch 0.5 mm)
pins: 1 IOVSS (power) "Digital I/O ground", 2 IOVDD (power) "Digital I/O power supply", 3 FSD (out) "Frame sync delayed output. The FSD output synchronizes a slave device to the frame sync of the master device.", 4 FS (io) "Frame sync. When FS goes low, DIN begins receiving data bits and DOUT begins transmitting data bits.", 5 DOUT (out) "Data output. DOUT transmits the ADC output bits and registers data, and is synchronized to SCLK and FS", 6 DIN (in) "Data input. DIN receives the DAC input data and register data from the external DSP and is synchronized to SCLK and FS.", 7 M/S (in) "Master/slave select input.", 8 ~{PWRDN} (in) "Power down.", 9 OUTM1 (out) "Inverting output of the DAC. OUTM1 is functionally identical with and complementary to OUTP1.", 10 OUTP1 (out) "Noninverting output of the DAC.", 11 DRVDD (power) "Analog power supply for the 16 Ohm drivers OUTP2 and OUTP3", 12 DRVSS (power) "Analog ground for the 16 Ohm drivers OUTP2 and OUTP3", 13 OUTP2 (out) "Analog output number 2 from the 16 Ohm driver.", 14 OUTMV (out) "Programmable virtual ground for the output of OUTP2 and OUTP3", 15 OUTP3 (out) "Analog output number 3 from the 16 Ohm driver.", 16 AVSS (power) "Analog ground", 17 AVDD (power) "Analog power supply", 18 MICIN (in) "MIC preamplifier input. It must be connected to AVSS if not used.", 19 INP2 (in) "Noninverting analog input 2. It must be connected to AVSS if not used.", 20 INM2 (in) "Inverting analog input 2. It must be connected to AVSS if not used.", 21 BIAS (out) "Bias output voltage is software selectable between 1.35 V and 2.35 V.", 22 INM1 (in) "Inverting analog input 1. It must be connected to AVSS if not used.", 23 INP1 (in) "Noninverting analog input 1. It must be connected to AVSS if not used.", 24 ~{RESET} (in) "Hardware reset.", 25 MCLK (in) "Master clock. MCLK derives the internal clocks of the sigma-delta analog interface circuit.", 26 SCL (in) "Programmable host port (I2C or S2C) clock input.", 27 SDA (io) "Programmable host port (I2C or S2C) data line.", 28 SCLK (io) "Shift clock. SCLK signal clocks serial data into DIN and out of DOUT during the frame-sync interval.", 29 DVDD (power) "Digital power supply", 30 DVSS (power) "Digital ground"

## TLV320AIC12IDBTR
designator U?
Low-Power, Highly-Integrated, Programmable 16-Bit, 26-Ksps Mono CODEC, 30-Pin TSSOP, Industrial Grade; Published: 16-Dec-2005; DatasheetVersion: 17-Oct-2005; PackageVersion: Sep-2005; PackageReference: DBT30; Publisher: Altium Limited; PackageDescription: Shrink Small Outline; 30 Leads; Body Width 4.4 mm; Pitch 0.5 mm; Code_JEDEC: MO-153; ComponentLink1Description: Manufacturer Link; ComponentLink1URL: http://www.ti.com/; ComponentLink2Description: Datasheet; ComponentLink2URL: http://focus.ti.com/lit/ds/symlink/tlv320aic12.pdf
footprint DBT30 (Shrink Small Outline; 30 Leads; Body Width 4.4 mm; Pitch 0.5 mm)
pins: 1 IOVSS (power) "Digital I/O ground", 2 IOVDD (power) "Digital I/O power supply", 3 FSD (out) "Frame sync delayed output. The FSD output synchronizes a slave device to the frame sync of the master device.", 4 FS (io) "Frame sync. When FS goes low, DIN begins receiving data bits and DOUT begins transmitting data bits.", 5 DOUT (out) "Data output. DOUT transmits the ADC output bits and registers data, and is synchronized to SCLK and FS", 6 DIN (in) "Data input. DIN receives the DAC input data and register data from the external DSP and is synchronized to SCLK and FS.", 7 M/S (in) "Master/slave select input.", 8 ~{PWRDN} (in) "Power down.", 9 OUTM1 (out) "Inverting output of the DAC. OUTM1 is functionally identical with and complementary to OUTP1.", 10 OUTP1 (out) "Noninverting output of the DAC.", 11 DRVDD (power) "Analog power supply for the 16 Ohm drivers OUTP2 and OUTP3", 12 DRVSS (power) "Analog ground for the 16 Ohm drivers OUTP2 and OUTP3", 13 OUTP2 (out) "Analog output number 2 from the 16 Ohm driver.", 14 OUTMV (out) "Programmable virtual ground for the output of OUTP2 and OUTP3", 15 OUTP3 (out) "Analog output number 3 from the 16 Ohm driver.", 16 AVSS (power) "Analog ground", 17 AVDD (power) "Analog power supply", 18 MICIN (in) "MIC preamplifier input. It must be connected to AVSS if not used.", 19 INP2 (in) "Noninverting analog input 2. It must be connected to AVSS if not used.", 20 INM2 (in) "Inverting analog input 2. It must be connected to AVSS if not used.", 21 BIAS (out) "Bias output voltage is software selectable between 1.35 V and 2.35 V.", 22 INM1 (in) "Inverting analog input 1. It must be connected to AVSS if not used.", 23 INP1 (in) "Noninverting analog input 1. It must be connected to AVSS if not used.", 24 ~{RESET} (in) "Hardware reset.", 25 MCLK (in) "Master clock. MCLK derives the internal clocks of the sigma-delta analog interface circuit.", 26 SCL (in) "Programmable host port (I2C or S2C) clock input.", 27 SDA (io) "Programmable host port (I2C or S2C) data line.", 28 SCLK (io) "Shift clock. SCLK signal clocks serial data into DIN and out of DOUT during the frame-sync interval.", 29 DVDD (power) "Digital power supply", 30 DVSS (power) "Digital ground"

## TLV320AIC12IDBTRG4
designator U?
Low-Power, Highly-Integrated, Programmable 16-Bit, 26-Ksps Mono CODEC, 30-Pin TSSOP, Industrial Grade; Published: 16-Dec-2005; DatasheetVersion: 17-Oct-2005; PackageVersion: Sep-2005; PackageReference: DBT30; Publisher: Altium Limited; PackageDescription: Shrink Small Outline; 30 Leads; Body Width 4.4 mm; Pitch 0.5 mm; Code_JEDEC: MO-153; ComponentLink1Description: Manufacturer Link; ComponentLink1URL: http://www.ti.com/; ComponentLink2Description: Datasheet; ComponentLink2URL: http://focus.ti.com/lit/ds/symlink/tlv320aic12.pdf
footprint DBT30 (Shrink Small Outline; 30 Leads; Body Width 4.4 mm; Pitch 0.5 mm)
pins: 1 IOVSS (power) "Digital I/O ground", 2 IOVDD (power) "Digital I/O power supply", 3 FSD (out) "Frame sync delayed output. The FSD output synchronizes a slave device to the frame sync of the master device.", 4 FS (io) "Frame sync. When FS goes low, DIN begins receiving data bits and DOUT begins transmitting data bits.", 5 DOUT (out) "Data output. DOUT transmits the ADC output bits and registers data, and is synchronized to SCLK and FS", 6 DIN (in) "Data input. DIN receives the DAC input data and register data from the external DSP and is synchronized to SCLK and FS.", 7 M/S (in) "Master/slave select input.", 8 ~{PWRDN} (in) "Power down.", 9 OUTM1 (out) "Inverting output of the DAC. OUTM1 is functionally identical with and complementary to OUTP1.", 10 OUTP1 (out) "Noninverting output of the DAC.", 11 DRVDD (power) "Analog power supply for the 16 Ohm drivers OUTP2 and OUTP3", 12 DRVSS (power) "Analog ground for the 16 Ohm drivers OUTP2 and OUTP3", 13 OUTP2 (out) "Analog output number 2 from the 16 Ohm driver.", 14 OUTMV (out) "Programmable virtual ground for the output of OUTP2 and OUTP3", 15 OUTP3 (out) "Analog output number 3 from the 16 Ohm driver.", 16 AVSS (power) "Analog ground", 17 AVDD (power) "Analog power supply", 18 MICIN (in) "MIC preamplifier input. It must be connected to AVSS if not used.", 19 INP2 (in) "Noninverting analog input 2. It must be connected to AVSS if not used.", 20 INM2 (in) "Inverting analog input 2. It must be connected to AVSS if not used.", 21 BIAS (out) "Bias output voltage is software selectable between 1.35 V and 2.35 V.", 22 INM1 (in) "Inverting analog input 1. It must be connected to AVSS if not used.", 23 INP1 (in) "Noninverting analog input 1. It must be connected to AVSS if not used.", 24 ~{RESET} (in) "Hardware reset.", 25 MCLK (in) "Master clock. MCLK derives the internal clocks of the sigma-delta analog interface circuit.", 26 SCL (in) "Programmable host port (I2C or S2C) clock input.", 27 SDA (io) "Programmable host port (I2C or S2C) data line.", 28 SCLK (io) "Shift clock. SCLK signal clocks serial data into DIN and out of DOUT during the frame-sync interval.", 29 DVDD (power) "Digital power supply", 30 DVSS (power) "Digital ground"